# EAGLE library part PCA9306DCUR (library PCA9306DCUR)
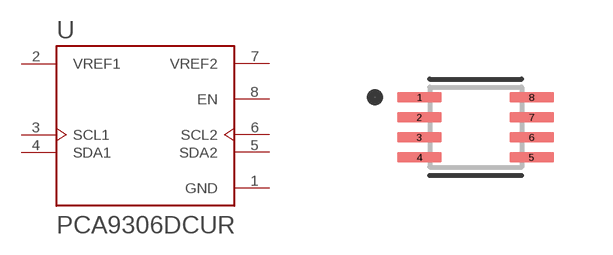
[diagram p0: symbol with the pads of SOP50P310X90-8N; footprint SOP50P310X90-8N]

Designator prefix U

## PCA9306DCUR (MANUFACTURER: Texas Instruments; MAXIMUM_PACKAGE_HEIGHT: 0.9 mm; PARTREV: M; STANDARD: IPC-7351B)  [SOP50P310X90-8N]
1  GND  pwr
2  VREF1  pwr
3  SCL1
4  SDA1
5  SDA2
6  SCL2
7  VREF2  pwr
8  EN  in

## Footprint SOP50P310X90-8N (pad centres in mm)
smd 1.12 x 0.27: 1 -1.405,0.75; 2 -1.405,0.25; 3 -1.405,-0.25; 4 -1.405,-0.75; 5 1.405,-0.75; 6 1.405,-0.25; 7 1.405,0.25; 8 1.405,0.75